# Altium schematic symbol library SCH - MCU - STM32 - ST MICROELECTRONICS STM32F411V(C-E)TX LQFP100.SchLib: 1 symbol
Pins are listed as number, name and electrical type; pins without a type are passive.

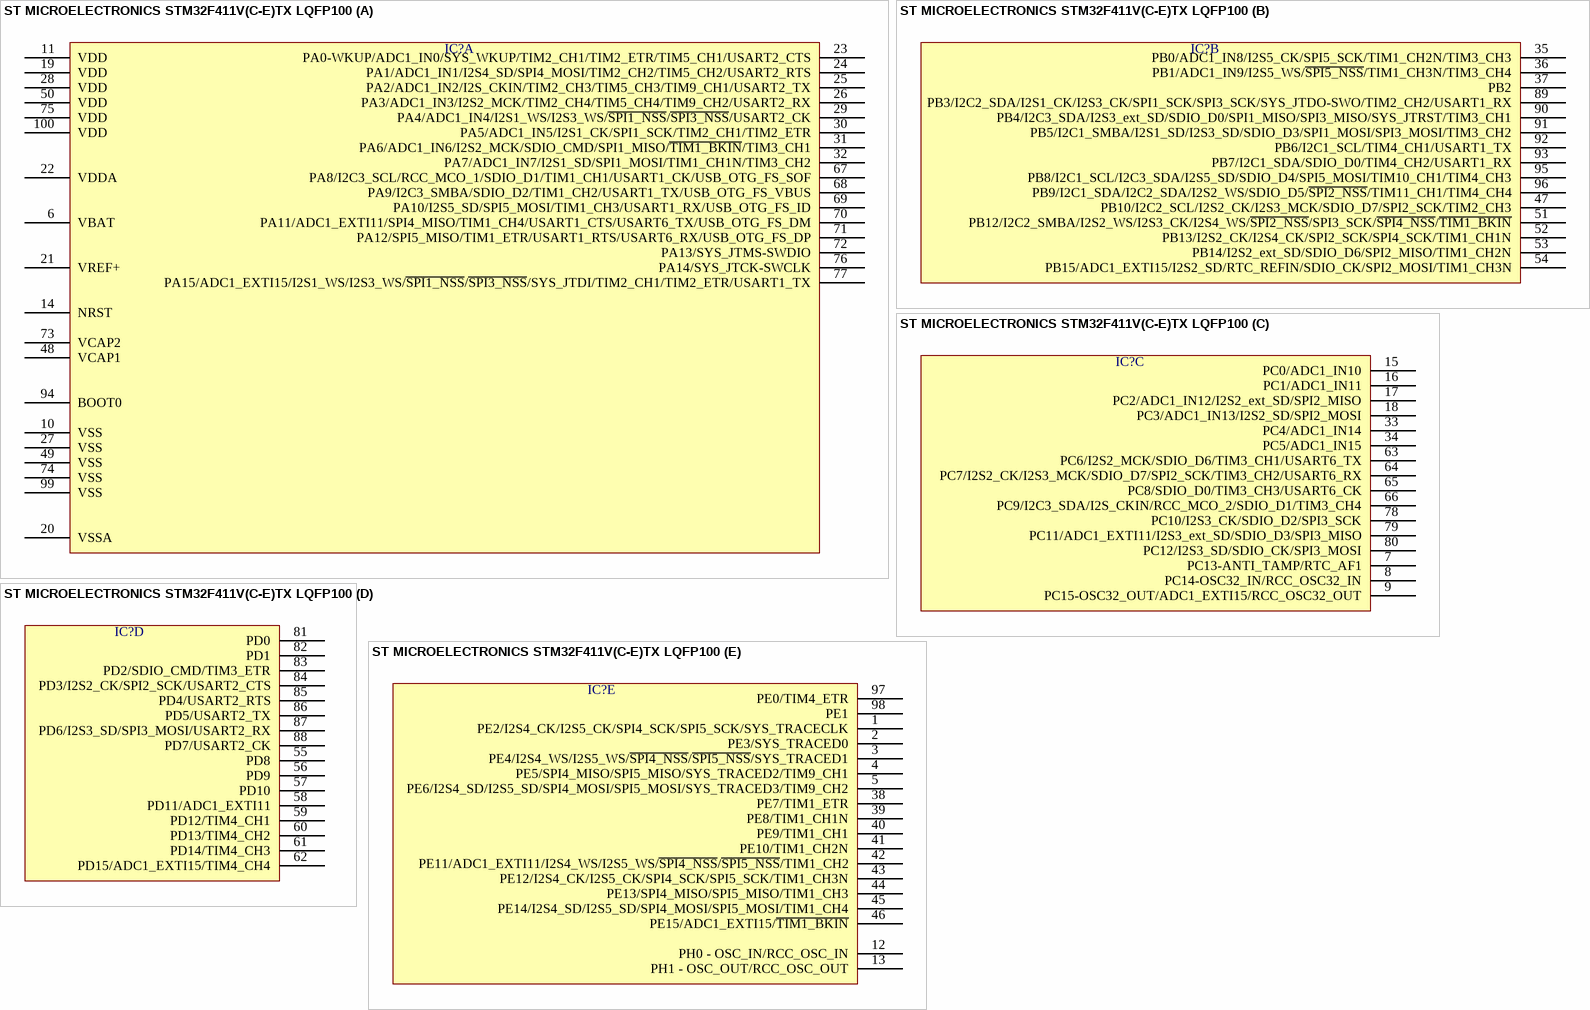
[diagram p0: symbol ST MICROELECTRONICS STM32F411V(C-E)TX LQFP100]

## ST MICROELECTRONICS STM32F411V(C-E)TX LQFP100
designator IC?  (value not drawn)
part A pins: 6 VBAT, 10 VSS, 11 VDD, 14 NRST, 19 VDD, 20 VSSA, 21 VREF+, 22 VDDA, 23 PA0-WKUP/ADC1_IN0/SYS_WKUP/TIM2_CH1/TIM2_ETR/TIM5_CH1/USART2_CTS, 24 PA1/ADC1_IN1/I2S4_SD/SPI4_MOSI/TIM2_CH2/TIM5_CH2/USART2_RTS, 25 PA2/ADC1_IN2/I2S_CKIN/TIM2_CH3/TIM5_CH3/TIM9_CH1/USART2_TX, 26 PA3/ADC1_IN3/I2S2_MCK/TIM2_CH4/TIM5_CH4/TIM9_CH2/USART2_RX, 27 VSS, 28 VDD, 29 PA4/ADC1_IN4/I2S1_WS/I2S3_WS/~{SPI1_NSS}/~{SPI3_NSS}/USART2_CK, 30 PA5/ADC1_IN5/I2S1_CK/SPI1_SCK/TIM2_CH1/TIM2_ETR, 31 PA6/ADC1_IN6/I2S2_MCK/SDIO_CMD/SPI1_MISO/~{TIM1_BKIN}/TIM3_CH1, 32 PA7/ADC1_IN7/I2S1_SD/SPI1_MOSI/TIM1_CH1N/TIM3_CH2, 48 VCAP1, 49 VSS, 50 VDD, 67 PA8/I2C3_SCL/RCC_MCO_1/SDIO_D1/TIM1_CH1/USART1_CK/USB_OTG_FS_SOF, 68 PA9/I2C3_SMBA/SDIO_D2/TIM1_CH2/USART1_TX/USB_OTG_FS_VBUS, 69 PA10/I2S5_SD/SPI5_MOSI/TIM1_CH3/USART1_RX/USB_OTG_FS_ID, 70 PA11/ADC1_EXTI11/SPI4_MISO/TIM1_CH4/USART1_CTS/USART6_TX/USB_OTG_FS_DM, 71 PA12/SPI5_MISO/TIM1_ETR/USART1_RTS/USART6_RX/USB_OTG_FS_DP, 72 PA13/SYS_JTMS-SWDIO, 73 VCAP2, 74 VSS, 75 VDD, 76 PA14/SYS_JTCK-SWCLK, 77 PA15/ADC1_EXTI15/I2S1_WS/I2S3_WS/~{SPI1_NSS}/~{SPI3_NSS}/SYS_JTDI/TIM2_CH1/TIM2_ETR/USART1_TX, 94 BOOT0, 99 VSS, 100 VDD
part B pins: 35 PB0/ADC1_IN8/I2S5_CK/SPI5_SCK/TIM1_CH2N/TIM3_CH3, 36 PB1/ADC1_IN9/I2S5_WS/~{SPI5_NSS}/TIM1_CH3N/TIM3_CH4, 37 PB2, 47 PB10/I2C2_SCL/I2S2_CK/I2S3_MCK/SDIO_D7/SPI2_SCK/TIM2_CH3, 51 PB12/I2C2_SMBA/I2S2_WS/I2S3_CK/I2S4_WS/~{SPI2_NSS}/SPI3_SCK/~{SPI4_NSS}/~{TIM1_BKIN}, 52 PB13/I2S2_CK/I2S4_CK/SPI2_SCK/SPI4_SCK/TIM1_CH1N, 53 PB14/I2S2_ext_SD/SDIO_D6/SPI2_MISO/TIM1_CH2N, 54 PB15/ADC1_EXTI15/I2S2_SD/RTC_REFIN/SDIO_CK/SPI2_MOSI/TIM1_CH3N, 89 PB3/I2C2_SDA/I2S1_CK/I2S3_CK/SPI1_SCK/SPI3_SCK/SYS_JTDO-SWO/TIM2_CH2/USART1_RX, 90 PB4/I2C3_SDA/I2S3_ext_SD/SDIO_D0/SPI1_MISO/SPI3_MISO/SYS_JTRST/TIM3_CH1, 91 PB5/I2C1_SMBA/I2S1_SD/I2S3_SD/SDIO_D3/SPI1_MOSI/SPI3_MOSI/TIM3_CH2, 92 PB6/I2C1_SCL/TIM4_CH1/USART1_TX, 93 PB7/I2C1_SDA/SDIO_D0/TIM4_CH2/USART1_RX, 95 PB8/I2C1_SCL/I2C3_SDA/I2S5_SD/SDIO_D4/SPI5_MOSI/TIM10_CH1/TIM4_CH3, 96 PB9/I2C1_SDA/I2C2_SDA/I2S2_WS/SDIO_D5/~{SPI2_NSS}/TIM11_CH1/TIM4_CH4
part C pins: 7 PC13-ANTI_TAMP/RTC_AF1, 8 PC14-OSC32_IN/RCC_OSC32_IN, 9 PC15-OSC32_OUT/ADC1_EXTI15/RCC_OSC32_OUT, 15 PC0/ADC1_IN10, 16 PC1/ADC1_IN11, 17 PC2/ADC1_IN12/I2S2_ext_SD/SPI2_MISO, 18 PC3/ADC1_IN13/I2S2_SD/SPI2_MOSI, 33 PC4/ADC1_IN14, 34 PC5/ADC1_IN15, 63 PC6/I2S2_MCK/SDIO_D6/TIM3_CH1/USART6_TX, 64 PC7/I2S2_CK/I2S3_MCK/SDIO_D7/SPI2_SCK/TIM3_CH2/USART6_RX, 65 PC8/SDIO_D0/TIM3_CH3/USART6_CK, 66 PC9/I2C3_SDA/I2S_CKIN/RCC_MCO_2/SDIO_D1/TIM3_CH4, 78 PC10/I2S3_CK/SDIO_D2/SPI3_SCK, 79 PC11/ADC1_EXTI11/I2S3_ext_SD/SDIO_D3/SPI3_MISO, 80 PC12/I2S3_SD/SDIO_CK/SPI3_MOSI
part D pins: 55 PD8, 56 PD9, 57 PD10, 58 PD11/ADC1_EXTI11, 59 PD12/TIM4_CH1, 60 PD13/TIM4_CH2, 61 PD14/TIM4_CH3, 62 PD15/ADC1_EXTI15/TIM4_CH4, 81 PD0, 82 PD1, 83 PD2/SDIO_CMD/TIM3_ETR, 84 PD3/I2S2_CK/SPI2_SCK/USART2_CTS, 85 PD4/USART2_RTS, 86 PD5/USART2_TX, 87 PD6/I2S3_SD/SPI3_MOSI/USART2_RX, 88 PD7/USART2_CK
part E pins: 1 PE2/I2S4_CK/I2S5_CK/SPI4_SCK/SPI5_SCK/SYS_TRACECLK, 2 PE3/SYS_TRACED0, 3 PE4/I2S4_WS/I2S5_WS/~{SPI4_NSS}/~{SPI5_NSS}/SYS_TRACED1, 4 PE5/SPI4_MISO/SPI5_MISO/SYS_TRACED2/TIM9_CH1, 5 PE6/I2S4_SD/I2S5_SD/SPI4_MOSI/SPI5_MOSI/SYS_TRACED3/TIM9_CH2, 12 PH0 - OSC_IN/RCC_OSC_IN, 13 PH1 - OSC_OUT/RCC_OSC_OUT, 38 PE7/TIM1_ETR, 39 PE8/TIM1_CH1N, 40 PE9/TIM1_CH1, 41 PE10/TIM1_CH2N, 42 PE11/ADC1_EXTI11/I2S4_WS/I2S5_WS/~{SPI4_NSS}/~{SPI5_NSS}/TIM1_CH2, 43 PE12/I2S4_CK/I2S5_CK/SPI4_SCK/SPI5_SCK/TIM1_CH3N, 44 PE13/SPI4_MISO/SPI5_MISO/TIM1_CH3, 45 PE14/I2S4_SD/I2S5_SD/SPI4_MOSI/SPI5_MOSI/TIM1_CH4, 46 PE15/ADC1_EXTI15/~{TIM1_BKIN}, 97 PE0/TIM4_ETR, 98 PE1